# Altium schematic symbol library OTHER.SchLib: 8 symbols
Pins are listed as number, name and electrical type; pins without a type are passive.

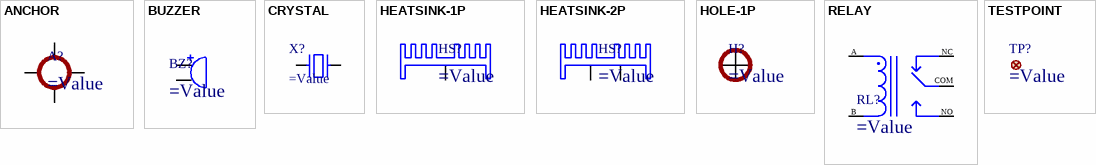
[diagram p0: symbols ANCHOR to TESTPOINT]

## ANCHOR
designator A?  (no BOM)
=Description

## BUZZER
designator BZ?
=Description
pins: 1, 2
text: +

## CRYSTAL
designator X?
=Description
pins: 1, 2

## HEATSINK-1P
designator HS?
=Description
pins: 1

## HEATSINK-2P
designator HS?
=Description
pins: 1, 2

## HOLE-1P
designator H?  (no BOM)
=Description
pins: 1

## RELAY
designator RL?
=Description
pins: 1, 2, 3, 4, 5
text: A; NC; COM; B; NO

## TESTPOINT
designator TP?
=Description
pins: 1